# Altium schematic symbol library Incline.SCHLIB: 2 symbols
Pins are listed as number, name and electrical type; pins without a type are passive.

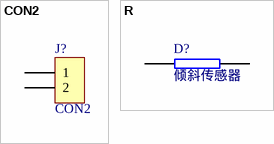
[diagram p0: symbols CON2 to R]

## CON2
designator J?
Connector
footprint J-SH1.0-T-1-LT-2A
pins: 1, 2

## R
designator D?, comment 倾斜传感器
footprint 倾斜传感器
pins: 1, 2